# EAGLE library part ED2614-ND (library TerminalBlock)
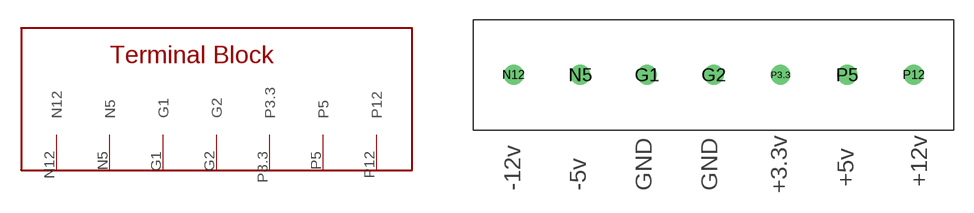
[diagram p1: symbol with the pads of 7X1; footprint 7X1]

Designator prefix -

## ED2614-ND  [7X1]
G1  G1
G2  G2
N5  N5
N12  N12
P3.3  P3.3
P5  P5
P12  P12

## Footprint 7X1 (pad centres in mm)
drill 1 round: G1 -23.36,-4.2; G2 -18.28,-4.2; N5 -28.44,-4.2; N12 -33.52,-4.2; P3.3 -13.2,-4.2; P5 -8.12,-4.2; P12 -3.04,-4.2